# Altium footprint library 4244.256-3.PcbLib: 1 footprints
Each footprint in its own frame and in the unit in brackets; x right, y up, seen from the top. Pads: shape width x height; smd on the part's side, far side on the other; paste and mask are expansions set on the pad; w line width, h text height; cw(c..) or ccw(c..) is an arc to the next point about the centre after c.
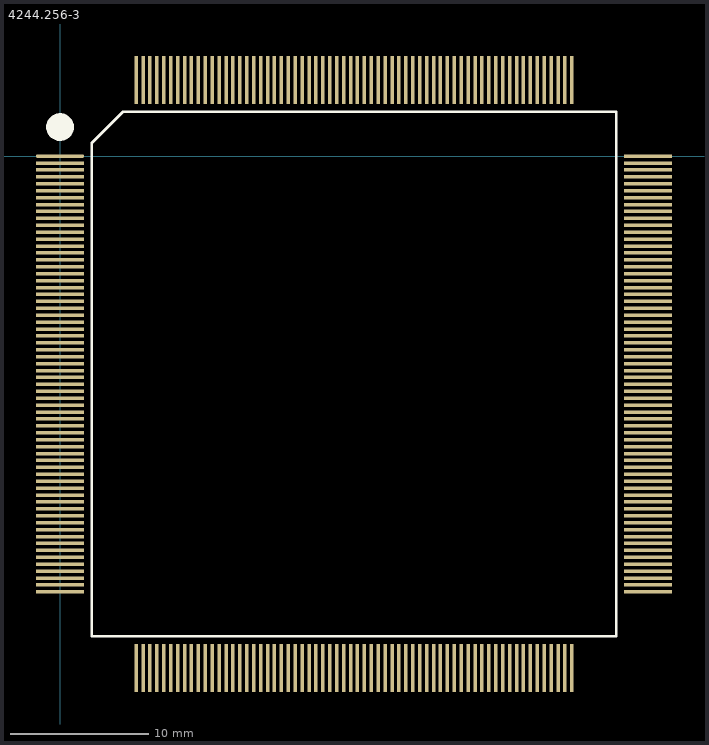
[diagram p0: the footprint, top view; thin cyan lines are the x and y axes]

## 4244.256-3 [mm]
pads (256):
  oval 3.5x0.25 smd: 1(0,0)
  rect 3.5x0.25 smd: 2(0,-0.5) 3(0,-1) 4(0,-1.5) 5(0,-2) 6(0,-2.5) 7(0,-3) 8(0,-3.5) 9(0,-4) 10(0,-4.5) 11(0,-5) 12(0,-5.5) 13(0,-6) 14(0,-6.5) 15(0,-7) 16(0,-7.5) 17(0,-8) 18(0,-8.5) 19(0,-9) 20(0,-9.5) 21(0,-10) 22(0,-10.5) 23(0,-11) 24(0,-11.5) 25(0,-12) 26(0,-12.5) 27(0,-13) 28(0,-13.5) 29(0,-14) 30(0,-14.5) 31(0,-15) 32(0,-15.5) 33(0,-16) 34(0,-16.5) 35(0,-17) 36(0,-17.5) 37(0,-18) 38(0,-18.5) 39(0,-19) 40(0,-19.5) 41(0,-20) 42(0,-20.5) 43(0,-21) 44(0,-21.5) 45(0,-22) 46(0,-22.5) 47(0,-23) 48(0,-23.5) 49(0,-24) 50(0,-24.5) 51(0,-25) 52(0,-25.5) 53(0,-26) 54(0,-26.5) 55(0,-27) 56(0,-27.5) 57(0,-28) 58(0,-28.5) 59(0,-29) 60(0,-29.5) 61(0,-30) 62(0,-30.5) 63(0,-31) 64(0,-31.5) 129(42.5,-31.5) 130(42.5,-31) 131(42.5,-30.5) 132(42.5,-30) 133(42.5,-29.5) 134(42.5,-29) 135(42.5,-28.5) 136(42.5,-28) 137(42.5,-27.5) 138(42.5,-27) 139(42.5,-26.5) 140(42.5,-26) 141(42.5,-25.5) 142(42.5,-25) 143(42.5,-24.5) 144(42.5,-24) 145(42.5,-23.5) 146(42.5,-23) 147(42.5,-22.5) 148(42.5,-22) 149(42.5,-21.5) 150(42.5,-21) 151(42.5,-20.5) 152(42.5,-20) 153(42.5,-19.5) 154(42.5,-19) 155(42.5,-18.5) 156(42.5,-18) 157(42.5,-17.5) 158(42.5,-17) 159(42.5,-16.5) 160(42.5,-16) 161(42.5,-15.5) 162(42.5,-15) 163(42.5,-14.5) 164(42.5,-14) 165(42.5,-13.5) 166(42.5,-13) 167(42.5,-12.5) 168(42.5,-12) 169(42.5,-11.5) 170(42.5,-11) 171(42.5,-10.5) 172(42.5,-10) 173(42.5,-9.5) 174(42.5,-9) 175(42.5,-8.5) 176(42.5,-8) 177(42.5,-7.5) 178(42.5,-7) 179(42.5,-6.5) 180(42.5,-6) 181(42.5,-5.5) 182(42.5,-5) 183(42.5,-4.5) 184(42.5,-4) 185(42.5,-3.5) 186(42.5,-3) 187(42.5,-2.5) 188(42.5,-2) 189(42.5,-1.5) 190(42.5,-1) 191(42.5,-0.5) 192(42.5,0)
  rect 0.25x3.5 smd: 65(5.5,-37) 66(6,-37) 67(6.5,-37) 68(7,-37) 69(7.5,-37) 70(8,-37) 71(8.5,-37) 72(9,-37) 73(9.5,-37) 74(10,-37) 75(10.5,-37) 76(11,-37) 77(11.5,-37) 78(12,-37) 79(12.5,-37) 80(13,-37) 81(13.5,-37) 82(14,-37) 83(14.5,-37) 84(15,-37) 85(15.5,-37) 86(16,-37) 87(16.5,-37) 88(17,-37) 89(17.5,-37) 90(18,-37) 91(18.5,-37) 92(19,-37) 93(19.5,-37) 94(20,-37) 95(20.5,-37) 96(21,-37) 97(21.5,-37) 98(22,-37) 99(22.5,-37) 100(23,-37) 101(23.5,-37) 102(24,-37) 103(24.5,-37) 104(25,-37) 105(25.5,-37) 106(26,-37) 107(26.5,-37) 108(27,-37) 109(27.5,-37) 110(28,-37) 111(28.5,-37) 112(29,-37) 113(29.5,-37) 114(30,-37) 115(30.5,-37) 116(31,-37) 117(31.5,-37) 118(32,-37) 119(32.5,-37) 120(33,-37) 121(33.5,-37) 122(34,-37) 123(34.5,-37) 124(35,-37) 125(35.5,-37) 126(36,-37) 127(36.5,-37) 128(37,-37) 193(37,5.5) 194(36.5,5.5) 195(36,5.5) 196(35.5,5.5) 197(35,5.5) 198(34.5,5.5) 199(34,5.5) 200(33.5,5.5) 201(33,5.5) 202(32.5,5.5) 203(32,5.5) 204(31.5,5.5) 205(31,5.5) 206(30.5,5.5) 207(30,5.5) 208(29.5,5.5) 209(29,5.5) 210(28.5,5.5) 211(28,5.5) 212(27.5,5.5) 213(27,5.5) 214(26.5,5.5) 215(26,5.5) 216(25.5,5.5) 217(25,5.5) 218(24.5,5.5) 219(24,5.5) 220(23.5,5.5) 221(23,5.5) 222(22.5,5.5) 223(22,5.5) 224(21.5,5.5) 225(21,5.5) 226(20.5,5.5) 227(20,5.5) 228(19.5,5.5) 229(19,5.5) 230(18.5,5.5) 231(18,5.5) 232(17.5,5.5) 233(17,5.5) 234(16.5,5.5) 235(16,5.5) 236(15.5,5.5) 237(15,5.5) 238(14.5,5.5) 239(14,5.5) 240(13.5,5.5) 241(13,5.5) 242(12.5,5.5) 243(12,5.5) 244(11.5,5.5) 245(11,5.5) 246(10.5,5.5) 247(10,5.5) 248(9.5,5.5) 249(9,5.5) 250(8.5,5.5) 251(8,5.5) 252(7.5,5.5) 253(7,5.5) 254(6.5,5.5) 255(6,5.5) 256(5.5,5.5)
Top Overlay:
  circle w1: c0,2.1 r0.5
  lines w0.2: 2.285,-34.715 2.285,0.93 4.57,3.215 40.215,3.215 40.215,-34.715 2.285,-34.715
Mechanical 15:
  text "'.Designator'" at -1.576,-15.767 h4
3D body "4244.256-3.STEP": height 3.24, standoff 0.04, extent -1.3,-38.3 43.806,6.806